# Altium footprint library CN_WAGO_236-404.PcbLib: 1 footprints
Each footprint in its own frame and in the unit in brackets; x right, y up, seen from the top. Pads: shape width x height; smd on the part's side, far side on the other; paste and mask are expansions set on the pad; w line width, h text height; cw(c..) or ccw(c..) is an arc to the next point about the centre after c.
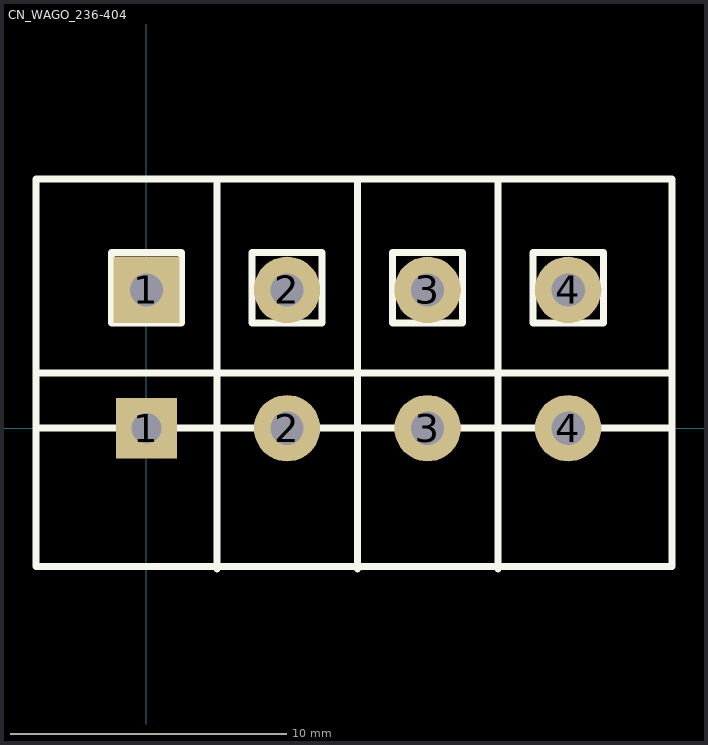
[diagram p0: the footprint, top view; thin cyan lines are the x and y axes]

## CN_WAGO_236-404 [mm] "236-404 Terminal Strip 4P"
pads (8):
  rect 2.2x2.2 hole 1.1: 1(0,0)
  rect 2.4x2.4 hole 1.2: 1(0,5)
  round 2.4 hole 1.2: 2(5.08,0) 2(5.08,5) 3(10.16,0) 3(10.16,5) 4(15.24,0) 4(15.24,5)
Top Overlay:
  lines w0.254: -4,0 19,0 ; -4,2 19,2 ; 2.54,-5.08 2.54,9 ; 7.62,-5.08 7.62,8.89 ; 12.7,-5.08 12.7,8.89 ; -4,-5 19,-5 19,9 -4,9 -4,-5 ; -1.27,3.81 -1.27,6.35 1.27,6.35 1.27,3.81 -1.27,3.81 ; 3.81,3.81 3.81,6.35 6.35,6.35 6.35,3.81 3.81,3.81 ; 8.89,3.81 8.89,6.35 11.43,6.35 11.43,3.81 8.89,3.81 ; 13.97,3.81 13.97,6.35 16.51,6.35 16.51,3.81 13.97,3.81